# EAGLE library part 1-794681-0 (library con-amp_edit)
Micro MATE-N-LOK Connectors grid 1.5mm Dual Row Through Hole Vertical Metal Through Hole Holddowns Source: ENG_CD_794681_E.pdf
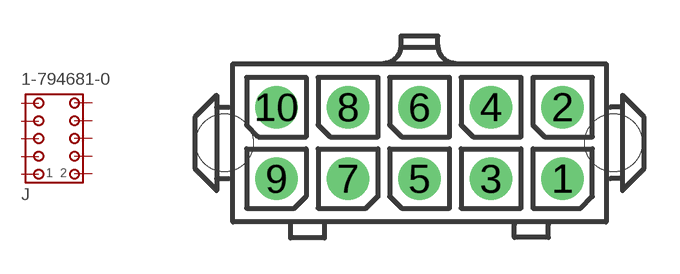
[diagram p159: symbol with the pads of 1-794681-0; footprint 1-794681-0]

Designator prefix J

## 1-794681-0  [1-794681-0]
1  1  pas
2  2  pas
3  3  pas
4  4  pas
5  5  pas
6  6  pas
7  7  pas
8  8  pas
9  9  pas
10  10  pas

## Footprint 1-794681-0 (pad centres in mm)
Micro MATE-N-LOK Connectors grid 1.5mm Dual Row Through Hole Vertical Metal Through Hole Holddowns Source: ENG_CD_794681_E.pdf
drill 1 pad 1.778: 1 6,-1.5; 2 6,1.5; 3 3,-1.5; 4 3,1.5; 5 0,-1.5; 6 0,1.5; 7 -3,-1.5; 8 -3,1.5; 9 -6,-1.5; 10 -6,1.5
hole 2.4 at 8.13,0
hole 2.4 at -8.17,0